# Altium schematic symbol library FPC 10.SchLib: 1 symbol
Pins are listed as number, name and electrical type; pins without a type are passive.

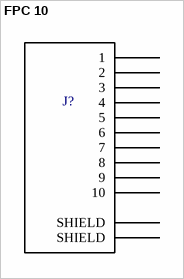
[diagram p0: symbol FPC 10]

## FPC 10
designator J?  (value not drawn)
0.5mm Pitch 10 Pin FPCFFC SMT Drawer Connector
footprint FPC 10 (0.5mm Pitch 10 Pin FPCFFC SMT Drawer Connector)
pins: 1, 2, 3, 4, 5, 6, 7, 8, 9, 10, 11 SHIELD, 12 SHIELD